# Altium footprint library QFN65P300X300X84-12N.PcbLib: 1 footprints
Each footprint in its own frame and in the unit in brackets; x right, y up, seen from the top. Pads: shape width x height; smd on the part's side, far side on the other; paste and mask are expansions set on the pad; w line width, h text height; cw(c..) or ccw(c..) is an arc to the next point about the centre after c.
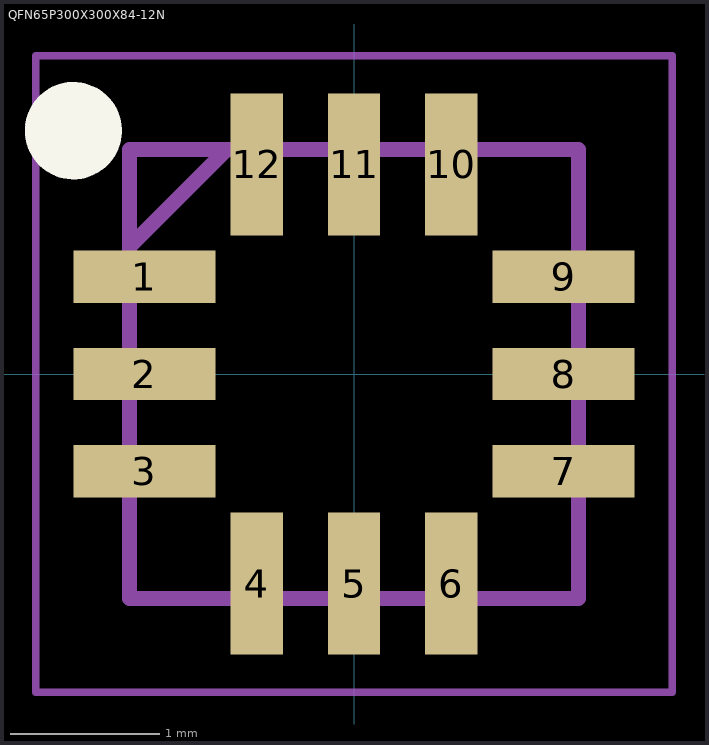
[diagram p0: the footprint, top view; thin cyan lines are the x and y axes]

## QFN65P300X300X84-12N [mm]
pads (12):
  rect 0.95x0.35 smd: 1(-1.4,0.65) 2(-1.4,0) 3(-1.4,-0.65) 7(1.4,-0.65) 8(1.4,0) 9(1.4,0.65)
  rect 0.35x0.95 smd: 4(-0.65,-1.4) 5(0,-1.4) 6(0.65,-1.4) 10(0.65,1.4) 11(0,1.4) 12(-0.65,1.4)
Top Overlay:
  circle w0.325: c-1.874,1.625 r0.162
Mechanical 15:
  lines w0.1: -1.5,0.85 -0.85,1.5 ; -1.5,-1.5 1.5,-1.5 1.5,1.5 -1.5,1.5 -1.5,-1.5
Mechanical 20:
  lines w0.05: -2.125,-2.125 2.125,-2.125 2.125,2.125 -2.125,2.125 -2.125,-2.125